# Altium integrated library ARJM11A3-009-AB-ER2-T.IntLib: 1 symbol
Pins are listed as number, name and electrical type; pins without a type are passive.

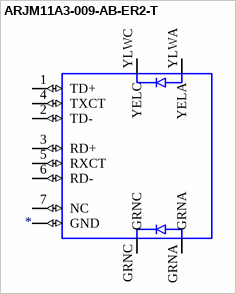
[diagram p0: symbol ARJM11A3-009-AB-ER2-T]

## ARJM11A3-009-AB-ER2-T
designator ?
1 Port RJ45 Magjack Connector Through Hole 10/100 Base-T, AutoMDIX; MF: Abracon LLC; MP: ARJM11A3-009-AB-ER2-T; Value: *; SnapEDA_Link: https://www.snapeda.com/parts/ARJM11A3-009-AB-ER2-T/Abracon%20LLC/view-part/4629788/?ref=snap; Package: None; Price: None; Availability: Unavailable
footprint ARJM11A3-009-AB-ER2-T
pins: 1 TD+ (io), 2 TD- (io), 3 RD+ (io), 4 TXCT (io), 5 RXCT (io), 6 RD- (io), 7 NC (io), 8 GND (io), GRNA (io), GRNC (io), P$3 GND (io), P$4 GND (io), YLWA YELA (io), YLWC YELC (io)